# Altium footprint library 1-103904-0.PcbLib: 1 footprints
Each footprint in its own frame and in the unit in brackets; x right, y up, seen from the top. Pads: shape width x height; smd on the part's side, far side on the other; paste and mask are expansions set on the pad; w line width, h text height; cw(c..) or ccw(c..) is an arc to the next point about the centre after c.
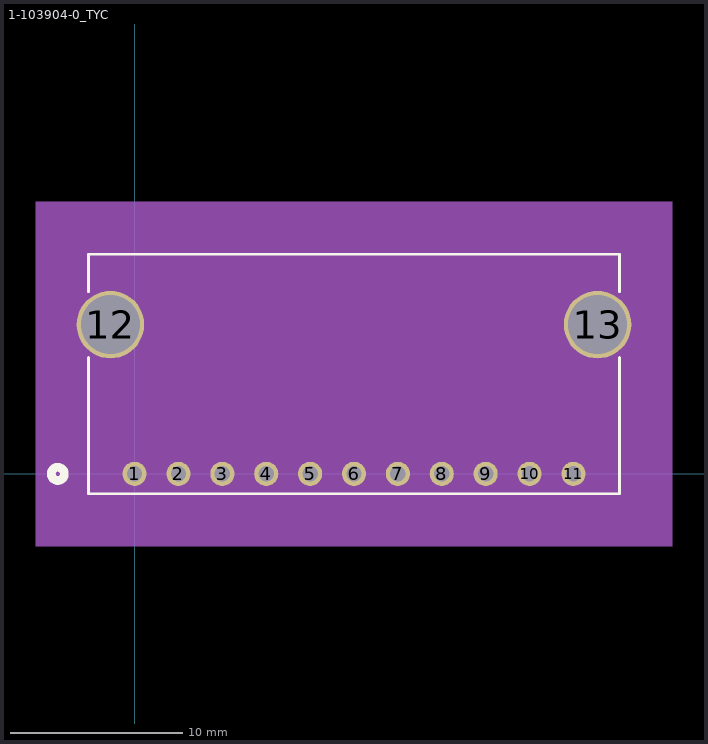
[diagram p0: the footprint, top view; thin cyan lines are the x and y axes]

## 1-103904-0_TYC [mil]
pads (13):
  round 55 hole 35 mask+0: 1(0,0) 2(100,0) 3(200,0) 4(300,0) 5(400,0) 6(500,0) 7(600,0) 8(700,0) 9(800,0) 10(900,0) 11(1000,0)
  round 154 hole 134: 12(-55,340) 13(1055,340)
Top Overlay:
  circle w20: c-175,0 r15
  lines w6: -105,265.05 -105,-45 1105,-45 1105,265.05 ; -105,414.95 -105,500 1105,500 1105,414.95
Bottom Overlay:
  circle w20: c-175,0 r15
Mechanical 5:
  region: -225,620 1225,620 1225,-165 -225,-165
Mechanical 13:
  circle w20: c0,-75 r15
  lines w1: -100,-40 1100,-40 1100,495 -100,495 -100,-40
Mechanical 15:
  region: 1142,505 -142,505 -142,-50 1142,-50
  lines w6: -142,-50 -142,505 1142,505 1142,-50 -142,-50
3D body: height 10, standoff 0, extent 0,0 10,10